# Altium footprint library PcbLib1.PcbLib: 10 footprints
Each footprint in its own frame and in the unit in brackets; x right, y up, seen from the top. Pads: shape width x height; smd on the part's side, far side on the other; paste and mask are expansions set on the pad; w line width, h text height; cw(c..) or ccw(c..) is an arc to the next point about the centre after c.
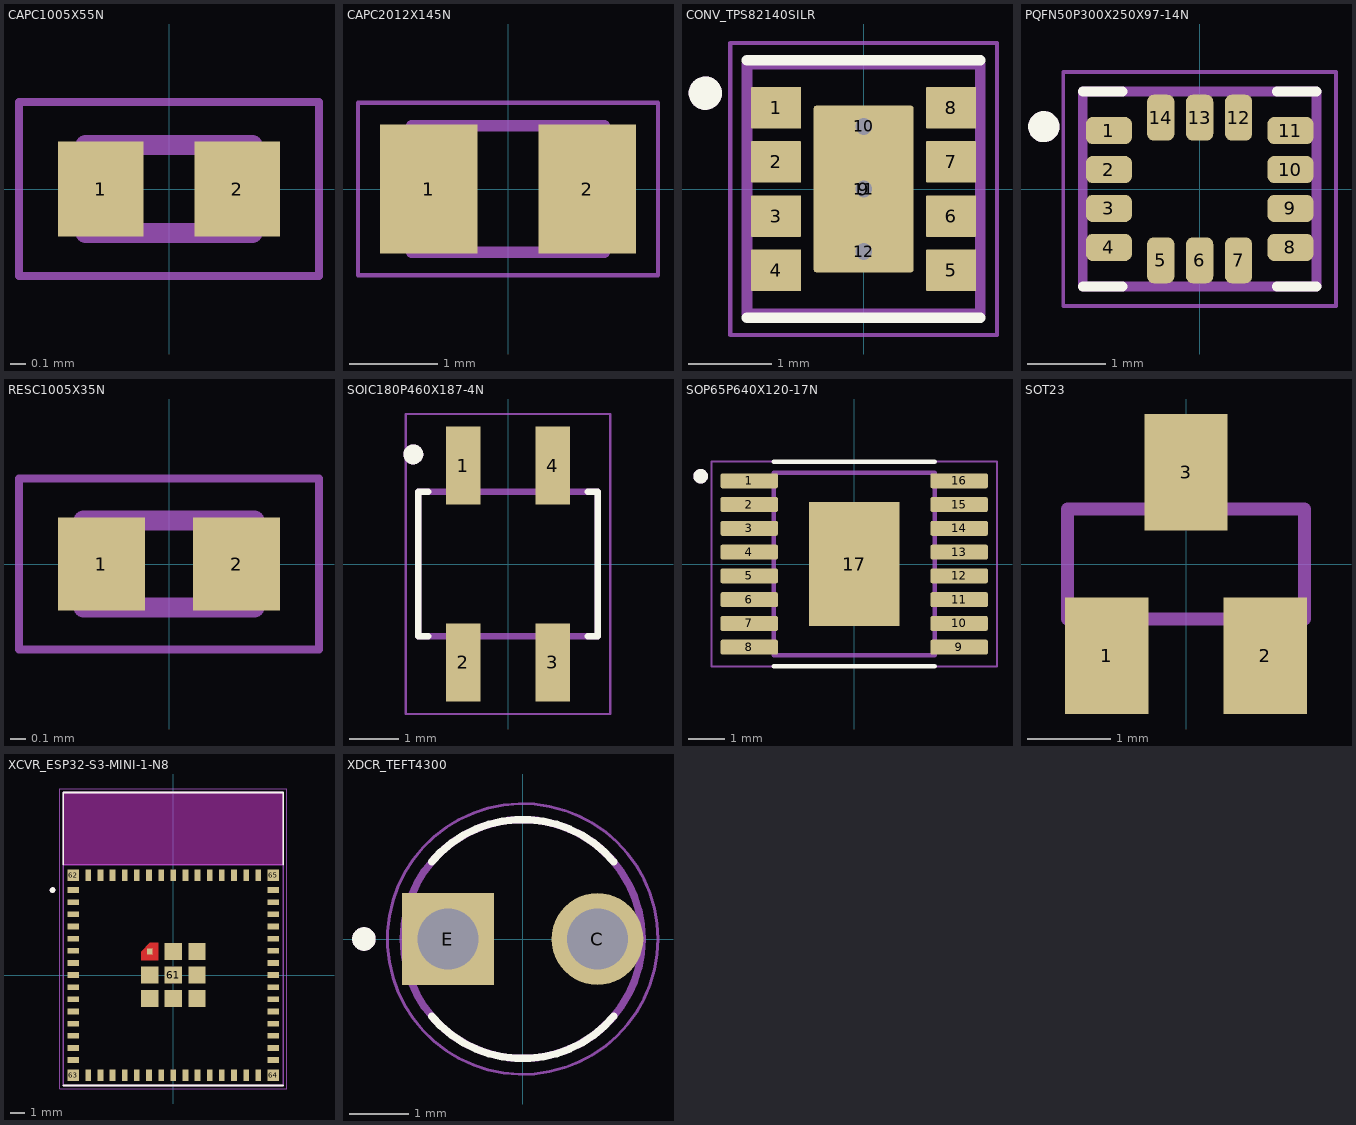
[diagram p0: the footprints below, top view; thin cyan lines are the x and y axes]

## CAPC1005X55N [mm]
pads (2):
  rect 0.54x0.6 smd: 1(-0.432,0) 2(0.432,0)
Mechanical 13:
  lines w0.127: -0.53,-0.28 0.53,-0.28 0.53,0.28 -0.53,0.28 -0.53,-0.28
Mechanical 15:
  lines w0.05: -0.95,-0.55 0.95,-0.55 0.95,0.55 -0.95,0.55 -0.95,-0.55
3D body "step_temp.STEP": height 0.55, standoff 0, extent -0.5,-0.25 0.5,0.25

## CAPC2012X145N [mm]
pads (2):
  rect 1.11x1.47 smd: 1(-0.9,0) 2(0.9,0)
Mechanical 13:
  lines w0.127: -1.1,-0.72 -1.1,0.72 1.1,0.72 1.1,-0.72 -1.1,-0.72
Mechanical 15:
  lines w0.05: -1.708,-0.983 -1.708,0.983 1.708,0.983 1.708,-0.983 -1.708,-0.983
3D body "step_temp.STEP": height 1.45, standoff 0, extent -1,-0.625 1,0.625

## CONV_TPS82140SILR [mm]
pads (12):
  rrect5% 0.6x0.5 smd paste-1 mask+0: 1(-1.05,0.975) 2(-1.05,0.325) 3(-1.05,-0.325) 4(-1.05,-0.975) 5(1.05,-0.975) 6(1.05,-0.325) 7(1.05,0.325) 8(1.05,0.975)
  rrect5% 1.2x2 smd paste-2 mask+0: 9(0,0)
  round 0.3 hole 0.2 mask+0: 10(0,0.75) 11(0,0) 12(0,-0.75)
Top Overlay:
  circle w0.2: c-1.9,1.15 r0.1
  lines w0.127: -1.4,-1.545 1.4,-1.545 ; -1.4,1.545 1.4,1.545
Top Paste:
  drawing of 10 lines, arcs and shapes, not listed
Top Solder:
  drawing of 9 lines, arcs and shapes, not listed
Mechanical 13:
  circle w0.2: c-1.9,1.15 r0.1
  lines w0.127: -1.4,-1.5 -1.4,1.5 1.4,1.5 1.4,-1.5 -1.4,-1.5
Mechanical 15:
  lines w0.05: -1.6,-1.75 -1.6,1.75 1.6,1.75 1.6,-1.75 -1.6,-1.75
3D body "step_temp.STEP": height 1.53, standoff 0, extent -1.5,-1.4 1.5,1.4

## PQFN50P300X250X97-14N [mm]
pads (14):
  rrect50% 0.59x0.35 smd mask+0: 1(-1.165,0.75) 2(-1.165,0.25) 3(-1.165,-0.25) 4(-1.165,-0.75) 8(1.165,-0.75) 9(1.165,-0.25) 10(1.165,0.25) 11(1.165,0.75)
  rrect50% 0.35x0.59 smd mask+0: 5(-0.5,-0.915) 6(0,-0.915) 7(0.5,-0.915) 12(0.5,0.915) 13(0,0.915) 14(-0.5,0.915)
Top Overlay:
  circle w0.2: c-2,0.8 r0.1
  lines w0.127: -1.5,-1.25 -0.99,-1.25 ; -1.5,1.25 -0.99,1.25 ; 0.99,-1.25 1.5,-1.25 ; 0.99,1.25 1.5,1.25
Top Solder:
  drawing of 14 lines, arcs and shapes, not listed
Mechanical 13:
  circle w0.2: c-2,0.8 r0.1
  lines w0.127: -1.5,-1.25 1.5,-1.25 1.5,1.25 -1.5,1.25 -1.5,-1.25
Mechanical 15:
  lines w0.05: -1.75,-1.5 1.75,-1.5 1.75,1.5 -1.75,1.5 -1.75,-1.5
3D body "ICM-42688-P--3DModel-STEP-1.STEP": height 0.97, standoff 0, extent -1.5,-1.27 1.5,1.23

## RESC1005X35N [mm]
pads (2):
  rect 0.56x0.6 smd paste+0 mask+0.102: 1(-0.435,0) 2(0.435,0)
Mechanical 13:
  lines w0.127: -0.55,-0.28 -0.55,0.28 0.55,0.28 0.55,-0.28 -0.55,-0.28
Mechanical 15:
  lines w0.05: -0.965,-0.55 -0.965,0.55 0.965,0.55 0.965,-0.55 -0.965,-0.55
3D body "step_temp.STEP": height 0.35, standoff 0, extent -0.5,-0.25 0.5,0.25

## SOIC180P460X187-4N [mm]
pads (4):
  rect 0.69x1.57 smd: 1(-0.9,1.975) 2(-0.9,-1.975) 3(0.9,-1.975) 4(0.9,1.975)
Top Overlay:
  circle w0.2: c-1.9,2.2 r0.1
  lines w0.127: -1.6,-1.45 -1.8,-1.45 -1.8,1.45 -1.6,1.45 ; 1.6,-1.45 1.8,-1.45 1.8,1.45 1.6,1.45
Mechanical 13:
  circle w0.2: c-1.9,2.2 r0.1
  lines w0.127: -1.8,-1.45 -1.8,1.45 1.8,1.45 1.8,-1.45 -1.8,-1.45
Mechanical 15:
  lines w0.05: -2.05,-3.01 -2.05,3.01 2.05,3.01 2.05,-3.01 -2.05,-3.01
3D body "step_temp.STEP": height 1.87, standoff 0, extent -1.7,-2.3 1.7,2.3

## SOP65P640X120-17N [mm]
pads (17):
  rrect25% 1.57x0.41 smd: 1(-2.87,2.275) 2(-2.87,1.625) 3(-2.87,0.975) 4(-2.87,0.325) 5(-2.87,-0.325) 6(-2.87,-0.975) 7(-2.87,-1.625) 8(-2.87,-2.275) 9(2.87,-2.275) 10(2.87,-1.625) 11(2.87,-0.975) 12(2.87,-0.325) 13(2.87,0.325) 14(2.87,0.975) 15(2.87,1.625) 16(2.87,2.275)
  rect 2.48x3.4 smd paste-3: 17(0,0)
Top Overlay:
  circle w0.2: c-4.2,2.4 r0.1
  lines w0.127: -2.2,-2.8 2.2,-2.8 ; -2.2,2.8 2.2,2.8
Top Paste:
  region: 0.8,-1.075 -0.8,-1.075 -0.8,1.075 0.8,1.075
Mechanical 13:
  circle w0.2: c-4.2,2.4 r0.1
  lines w0.127: -2.2,-2.5 2.2,-2.5 2.2,2.5 -2.2,2.5 -2.2,-2.5
Mechanical 15:
  lines w0.05: -3.905,-2.8 3.905,-2.8 3.905,2.8 -3.905,2.8 -3.905,-2.8
3D body "step_temp.STEP": height 1.2, standoff 0, extent -3.2,-2.5 3.2,2.5

## SOT23 [mm]
pads (3):
  rect 1x1.4 smd paste+0 mask+0.102: 1(-0.95,-1.1) 2(0.95,-1.1) 3(0,1.1)
Mechanical 13:
  region: -0.711,-1.295 -1.168,-1.295 -1.168,-0.711 -0.711,-0.711
  region: 1.168,-1.295 0.711,-1.295 0.711,-0.711 1.168,-0.711
  region: 0.229,0.711 -0.229,0.711 -0.229,1.295 0.229,1.295
  lines w0.152: -1.422,-0.66 -1.422,0.66 1.422,0.66 1.422,-0.66 -1.422,-0.66
3D body "step_temp.STEP": height 1.25, standoff 0, extent -1.45,-1.4 1.45,1.4

## XCVR_ESP32-S3-MINI-1-N8 [mm]
height 2.55
pads (73):
  rect 0.8x0.4 smd: 1(-7,5.95) 2(-7,5.1) 3(-7,4.25) 4(-7,3.4) 5(-7,2.55) 6(-7,1.7) 7(-7,0.85) 8(-7,0) 9(-7,-0.85) 10(-7,-1.7) 11(-7,-2.55) 12(-7,-3.4) 13(-7,-4.25) 14(-7,-5.1) 15(-7,-5.95) 31(7,-5.95) 32(7,-5.1) 33(7,-4.25) 34(7,-3.4) 35(7,-2.55) 36(7,-1.7) 37(7,-0.85) 38(7,0) 39(7,0.85) 40(7,1.7) 41(7,2.55) 42(7,3.4) 43(7,4.25) 44(7,5.1) 45(7,5.95)
  rect 0.4x0.8 smd: 16(-5.95,-7) 17(-5.1,-7) 18(-4.25,-7) 19(-3.4,-7) 20(-2.55,-7) 21(-1.7,-7) 22(-0.85,-7) 23(0,-7) 24(0.85,-7) 25(1.7,-7) 26(2.55,-7) 27(3.4,-7) 28(4.25,-7) 29(5.1,-7) 30(5.95,-7) 46(5.95,7) 47(5.1,7) 48(4.25,7) 49(3.4,7) 50(2.55,7) 51(1.7,7) 52(0.85,7) 53(0,7) 54(-0.85,7) 55(-1.7,7) 56(-2.55,7) 57(-3.4,7) 58(-4.25,7) 59(-5.1,7) 60(-5.95,7)
  rect 1.2x1.2 smd: 61(0,0) 61_2(0,1.65) 61_3(1.65,1.65) 61_4(1.65,0) 61_5(1.65,-1.65) 61_6(0,-1.65) 61_7(-1.65,-1.65) 61_8(-1.65,0)
  rect 0.4x0.4 smd paste-1 mask+0: 61_1(-1.65,1.65)
  rect 0.8x0.8 smd: 62(-7,7) 63(-7,-7) 64(7,-7) 65(7,7)
Top Layer:
  region: -1.05,1.05 -2.25,1.05 -2.25,1.65 -1.65,2.25 -1.05,2.25
Top Overlay:
  circle w0.2: c-8.45,5.95 r0.1
  lines w0.127: -7.7,-7.725 7.7,-7.725 ; -7.7,7.725 -7.7,12.775 7.7,12.775 7.7,7.725
Top Paste:
  region: -1.05,1.05 -2.25,1.05 -2.25,1.65 -1.65,2.25 -1.05,2.25
Top Solder:
  region: -0.95,0.95 -2.35,0.95 -2.35,1.7 -1.7,2.35 -0.95,2.35
Keep-Out Layer:
  region: 7.7,7.725 -7.7,7.725 -7.7,12.775 7.7,12.775
  region: 7.7,7.725 -7.7,7.725 -7.7,12.775 7.7,12.775
Mechanical 13:
  circle w0.2: c-8.45,5.95 r0.1
  lines w0.127: -7.7,7.725 7.7,7.725 ; -7.7,7.725 -7.7,12.775 7.7,12.775 7.7,7.725 ; -7.7,7.725 -7.7,-7.725 7.7,-7.725 7.7,7.725
Mechanical 15:
  lines w0.05: -7.95,-7.975 7.95,-7.975 7.95,13.025 -7.95,13.025 -7.95,-7.975
3D body "ESP32-S3-MINI-1-N8--3DModel-STEP-510211.STEP": height 2.55, standoff 0, extent -7.7,-7.725 7.7,12.775

## XDCR_TEFT4300 [mm]
height 6.1
pads (2):
  round 1.56 hole 1.04: C(1.27,0)
  rect 1.56x1.56 / inner round 1.56 / far side rect 1.56x1.56 hole 1.04: E(-1.27,0)
Top Overlay:
  circle w0.2: c-2.7,0 r0.1
  lines w0.127: -1.55,-1.31 ccw(c0,-0.009) 1.55,-1.31 ; -1.55,1.31 cw(c0,0.009) 1.55,1.31
Mechanical 13:
  circle w0.2: c-2.7,0 r0.1
  circle w0.127: c0,0 r2.03
Mechanical 15:
  circle w0.05: c0,0 r2.3
3D body "step_temp.STEP": height 6.1, standoff -28.8, extent -1.6,-1.95 1.6,1.95